# EAGLE library part CTR-742C083220JP-4X22R-4X0603 (library SchlegelAr_Master)
CTS-742C083220JP - Widerstandnetzwerke u. -Arrays 22ohms 50V 5% last modified: Armin Schlegel, 28.04.2014 http://de.mouser.com/ProductDetail/CTS/742C083220JP/?qs=%2Fha2pyFadugZw%2FZ8FzXmJjgugrSX4rX8irC%252bdOVCTeo59FWpXkhYqw%3D%3D http://pdf1.alldatasheet.net/datasheet-pdf/view/159746/CTS/741X083220JP.html
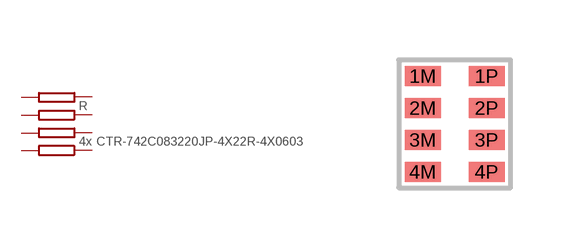
[diagram p10: symbol with the pads of R-ARRAY-4X0603; footprint R-ARRAY-4X0603]

Designator prefix R

## CTR-742C083220JP-4X22R-4X0603  [R-ARRAY-4X0603]
1M  1M
1P  1P
2M  2M
2P  2P
3M  3M
3P  3P
4M  4M
4P  4P

## Footprint R-ARRAY-4X0603 (pad centres in mm)
smd 0.9 x 0.5: 1M -0.8,1.2; 1P 0.8,1.2; 2M -0.8,0.4; 2P 0.8,0.4; 3M -0.8,-0.4; 3P 0.8,-0.4; 4M -0.8,-1.2; 4P 0.8,-1.2